# EAGLE library part LPC811M001JDH16 (library SquantorNxp)
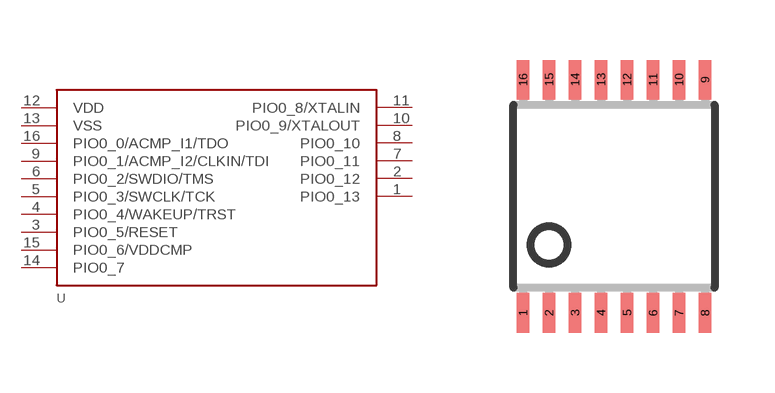
[diagram p1: symbol with the pads of TSSOP16; footprint TSSOP16]

Designator prefix -

## LPC811M001JDH16  [TSSOP16]
1  PIO0_13
2  PIO0_12
3  PIO0_5/RESET
4  PIO0_4/WAKEUP/TRST
5  PIO0_3/SWCLK/TCK
6  PIO0_2/SWDIO/TMS
7  PIO0_11
8  PIO0_10
9  PIO0_1/ACMP_I2/CLKIN/TDI
10  PIO0_9/XTALOUT
11  PIO0_8/XTALIN
12  VDD
13  VSS
14  PIO0_7
15  PIO0_6/VDDCMP
16  PIO0_0/ACMP_I1/TDO

## Footprint TSSOP16 (pad centres in mm)
Thin Shrink Small Outline Plastic 16
smd 0.305 x 0.991: 1 -2.275,-2.918; 2 -1.625,-2.918; 3 -0.975,-2.918; 4 -0.325,-2.918; 5 0.325,-2.918; 6 0.975,-2.918; 7 1.625,-2.918; 8 2.275,-2.918; 9 2.275,2.918; 10 1.625,2.918; 11 0.975,2.918; 12 0.325,2.918; 13 -0.325,2.918; 14 -0.975,2.918; 15 -1.625,2.918; 16 -2.275,2.918